# Altium schematic symbol library SnapEDAsch.SchLib: 1 symbol
Pins are listed as number, name and electrical type; pins without a type are passive.

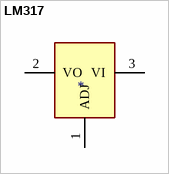
[diagram p0: symbol LM317]

## LM317
designator ?
Linear Voltage Regulator IC 1 Output 100mA SOT-89-3; MF: ON Semiconductor; MP: LM317; Value: *; Price: None; Availability: Unavailable; SnapEDA_Link: https://www.snapeda.com/parts/LM317/ON%20Semiconductor/view-part/2723883/?ref=snap; Package: SOIC-8 ON Semiconductor
footprint TO-220
pins: 1 ADJ (power), 2 VO (power), 3 VI (power)